# EAGLE library part TLE6250GV33 (library hsk_2012)
CAN transceiver 3,3V
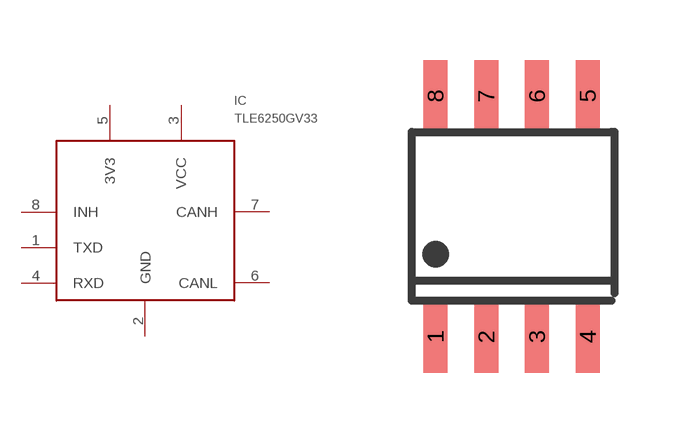
[diagram p7: symbol with the pads of PG-DSO-8; footprint PG-DSO-8]

Designator prefix IC

## TLE6250GV33_DSO8  [PG-DSO-8]
1  TXD
2  GND
3  VCC
4  RXD
5  3V3
6  CANL
7  CANH
8  INH

## Footprint PG-DSO-8 (pad centres in mm)
smd 0.6 x 1.8: 1 -1.905,-3.33; 2 -0.635,-3.33; 3 0.635,-3.33; 4 1.905,-3.33; 5 1.905,2.695; 6 0.635,2.695; 7 -0.635,2.695; 8 -1.905,2.695